# Altium footprint library VOLT_CONV_PCB_LIB.PcbLib: 12 footprints
Each footprint in its own frame and in the unit in brackets; x right, y up, seen from the top. Pads: shape width x height; smd on the part's side, far side on the other; paste and mask are expansions set on the pad; w line width, h text height; cw(c..) or ccw(c..) is an arc to the next point about the centre after c.
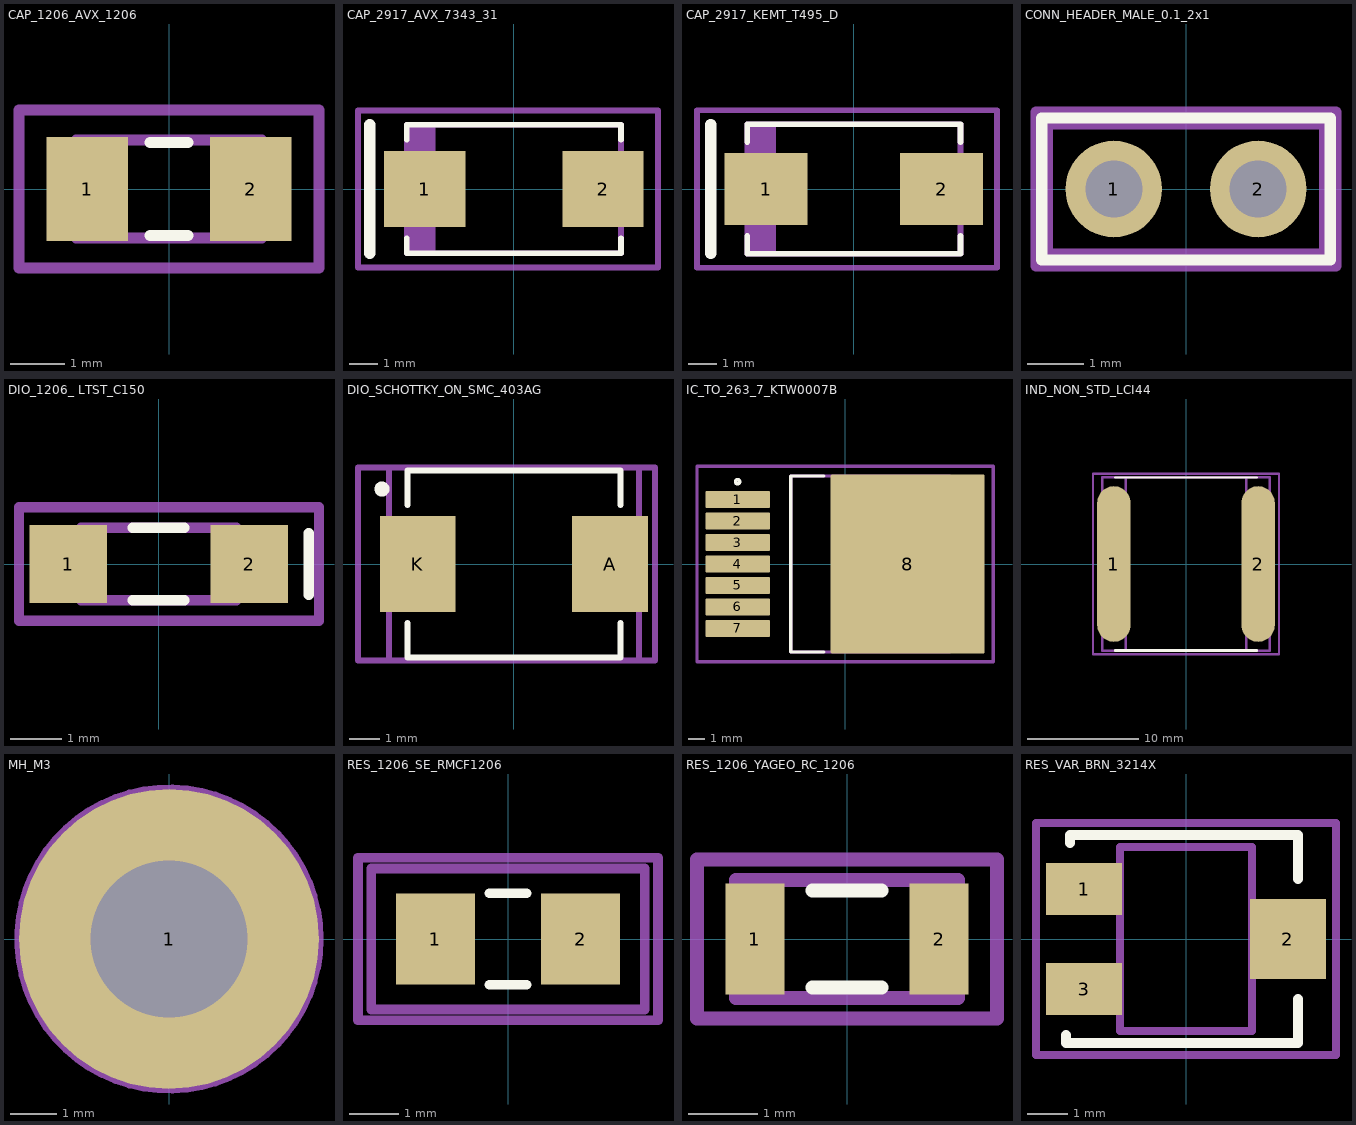
[diagram p0: the footprints below, top view; thin cyan lines are the x and y axes]

## CAP_1206_AVX_1206 [mm] "SMD, 2-Leads, Body 3.4x1.8mm, IPC Low Density"
height 1.52
pads (2):
  rect 1.5x1.9 smd: 1(-1.5,0) 2(1.5,0)
Top Overlay:
  lines w0.2: -0.35,-0.85 0.35,-0.85 ; -0.35,0.85 0.35,0.85
Mechanical 5:
  lines w0.2: -1.7,-0.9 1.7,-0.9 1.7,0.9 -1.7,0.9 -1.7,-0.9
  text ".Designator" at 0,0.187 h1
Mechanical 15:
  lines w0.2: -2.75,-1.45 2.75,-1.45 2.75,1.45 -2.75,1.45 -2.75,-1.45
3D body: height 1.52, standoff 0, extent 1.2,-0.9 1.7,0.9
3D body: height 1.52, standoff 0, extent -1.7,-0.9 -1.2,0.9
3D body: height 1.52, standoff 0, extent -1.2,-0.9 1.2,0.9

## CAP_2917_AVX_7343_31 [mm] "Molded Capacitor, 2-Leads, Body 7.5x4.5mm, IPC Low Density"
height 3.1
pads (2):
  rect 2.85x2.65 smd: 1(-3.125,0) 2(3.125,0)
Top Overlay:
  lines w0.2: -3.75,-1.725 -3.75,-2.25 3.75,-2.25 3.75,-1.725 ; -3.75,1.725 -3.75,2.25 3.75,2.25 3.75,1.725
  lines w0.4: -5.05,-2.25 -5.05,2.25
Mechanical 5:
  rectangle: -3.75,-2.25 -2.741,2.25
  lines w0.2: -3.75,-2.25 -3.75,2.25 3.75,2.25 3.75,-2.25 -3.75,-2.25
  text ".Designator" at 0,0.187 h1
Mechanical 15:
  lines w0.2: -5.461,-2.75 -5.461,2.75 5.05,2.75 5.05,-2.75 -5.461,-2.75
3D body "CAPMP7344X31M.step": height 3.1, standoff 0, extent -3.97,-2.25 3.97,2.25

## CAP_2917_KEMT_T495_D [mm] "Molded Capacitor, 2-Leads, Body 7.6x4.6mm, IPC Low Density"
height 3.1
pads (2):
  rect 2.95x2.55 smd: 1(-3.125,0) 2(3.125,0)
Top Overlay:
  lines w0.2: -3.8,-1.675 -3.8,-2.3 3.8,-2.3 3.8,-1.675 ; -3.8,1.675 -3.8,2.3 3.8,2.3 3.8,1.675
  lines w0.4: -5.1,-2.3 -5.1,2.3
Mechanical 5:
  rectangle: -3.8,-2.3 -2.778,2.3
  lines w0.2: -3.8,-2.3 -3.8,2.3 3.8,2.3 3.8,-2.3 -3.8,-2.3
  text ".Designator" at 0,0.286 h1.52
Mechanical 15:
  lines w0.2: -5.588,-2.8 5.1,-2.8 5.1,2.8 -5.588,2.8 -5.588,-2.8
3D body "CAPMP7343X31M.step": height 3.1, standoff 0, extent -4.02,-2.3 4.02,2.3

## CONN_HEADER_MALE_0.1_2x1 [mm] "Connector"
height 9.5
pads (2):
  round 1.7 hole 1: 1(-1.27,0) 2(1.27,0)
Top Overlay:
  lines w0.2: -2.54,-1.25 -2.54,1.25 2.54,1.25 2.54,-1.25 -2.54,-1.25
Mechanical 5:
  lines w0.2: -2.44,-1.15 -2.44,1.15 2.44,1.15 2.44,-1.15 -2.44,-1.15
  text ".Designator" at 0,0.187 h1
Mechanical 15:
  lines w0.2: -2.64,-1.35 -2.64,1.35 2.64,1.35 2.64,-1.35 -2.64,-1.35
3D body "826629-2.stp": height 9.51, standoff -3.19, extent -2.54,-1.25 2.54,1.25

## DIO_1206_ LTST_C150 [mm] "Diode"
height 1.1
pads (2):
  rect 1.5x1.5 smd: 1(-1.75,0) 2(1.75,0)
Top Overlay:
  lines w0.2: -0.5,-0.7 0.5,-0.7 ; -0.5,0.7 0.5,0.7 ; 2.9,-0.6 2.9,0.6
Mechanical 5:
  lines w0.2: -1.5,-0.7 -1.5,0.7 1.5,0.7 1.5,-0.7 -1.5,-0.7
  text ".Designator" at 0,0.187 h1
Mechanical 15:
  lines w0.2: -2.7,-1.1 -2.7,1.1 3.1,1.1 3.1,-1.1 -2.7,-1.1
3D body "LTST-C150GKT.stp": height 1.2, standoff 0, extent -1.651,-0.851 1.651,0.851

## DIO_SCHOTTKY_ON_SMC_403AG [mm] "Schottky Diode"
height 2.65
pads (2):
  rect 2.52x3.2 smd paste+0 mask+0: A(3.205,0) K(-3.205,0)
Top Overlay:
  circle w0.25: c-4.4,2.5 r0.125
  lines w0.2: -3.555,-1.975 -3.555,-3.11 3.555,-3.11 3.555,-1.975 ; -3.555,1.975 -3.555,3.11 3.555,3.11 3.555,1.975
Mechanical 5:
  lines w0.2: -4.165,-3.21 -4.165,3.21 4.165,3.21 4.165,-3.21 -4.165,-3.21
  text ".Designator" at 0,0.187 h1
Mechanical 15:
  lines w0.2: -5.2,-3.21 -5.2,3.21 4.7,3.21 4.7,-3.21 -5.2,-3.21
3D body "Diode_Vishay_SS32-E3-57T_eec.STEP": height 0.25, standoff 0, extent -4.165,-3.21 4.165,3.21

## IC_TO_263_7_KTW0007B [mm] "DPAK, 7-Leads, Body 9.4x10.4mm, Pitch 1.27mm, IPC Low Density"
height 4.65
pads (8):
  rrect10% 3.8x1 smd: 1(-6.35,3.81) 2(-6.35,2.54) 3(-6.35,1.27) 4(-6.35,0) 5(-6.35,-1.27) 6(-6.35,-2.54) 7(-6.35,-3.81)
  rrect1% 9.1x10.55 smd: 8(3.7,0)
Top Overlay:
  circle w0.2: c-6.35,4.86 r0.125
  lines w0.2: -1.25,-5.2 -3.2,-5.2 -3.2,5.2 -1.25,5.2
Mechanical 5:
  lines w0.2: -3.2,-5.2 -3.2,5.2 6.2,5.2 6.2,-5.2 -3.2,-5.2
  text ".Designator" at 0,0 h1
Mechanical 15:
  lines w0.2: -8.75,-5.775 8.75,-5.775 8.75,5.775 -8.75,5.775 -8.75,-5.775
3D body "LM2677S_5.0NOPB.stp": height 4.58, standoff -0.14, extent -6.985,-5.08 7.315,5.08

## IND_NON_STD_LCI44 [mm] "Inductor"
height 9.91
pads (2):
  rrect100% 3x13.97 smd: 1(-6.475,0) 2(6.475,0)
Top Overlay:
  lines w0.2: -6.35,7.75 6.35,7.75
  lines w0.254: -6.35,-7.75 6.35,-7.75
Mechanical 5:
  lines w0.2: -5.4,-7.7 -5.4,7.7 ; 5.4,-7.7 5.4,7.7 ; -7.52,-7.775 7.52,-7.775 7.52,7.775 -7.52,7.775 -7.52,-7.775
  text ".Designator" at 0,0.187 h1
Mechanical 15:
  lines w0.2: -8.35,-8.1 8.35,-8.1 8.35,8.1 -8.35,8.1 -8.35,-8.1
3D body: height 9.91, standoff 0, extent -7.505,-7.795 7.505,7.795

## MH_M3 [mm] "Mounting Holes, M3"
pads (1):
  round 6.5 hole 3.4: 1(0,0)
Mechanical 15:
  circle w0.2: c0,0 r3.25

## RES_1206_SE_RMCF1206 [mm] "Resistor"
height 0.55
pads (2):
  rect 1.604x1.858 smd paste+0 mask+0: 1(-1.476,0) 2(1.476,0)
Top Overlay:
  lines w0.2: -0.374,-0.929 0.374,-0.929 ; -0.374,0.929 0.374,0.929
Mechanical 5:
  lines w0.2: -2.777,-1.429 -2.777,1.429 2.777,1.429 2.777,-1.429 -2.777,-1.429
  text ".Designator" at 0,0.187 h1
Mechanical 15:
  lines w0.2: -3.048,-1.651 3.048,-1.651 3.048,1.651 -3.048,1.651 -3.048,-1.651
3D body "Res_Stackpole_Electronics_RMCF1206JT1K00_eec.STEP": height 0.25, standoff 0, extent -2.777,-1.429 2.777,1.429

## RES_1206_YAGEO_RC_1206 [mm] "Chip Resistor, 2-Leads, Body 3.10x1.60mm, IPC High Density"
height 0.65
pads (2):
  rect 0.85x1.6 smd: 1(-1.325,0) 2(1.325,0)
Top Overlay:
  lines w0.2: -0.5,-0.7 0.5,-0.7 ; -0.5,0.7 0.5,0.7
Mechanical 5:
  lines w0.2: -1.6,-0.85 1.6,-0.85 1.6,0.85 -1.6,0.85 -1.6,-0.85
  text ".Designator" at 0,0.187 h1
Mechanical 15:
  lines w0.2: -2.159,-1.143 2.159,-1.143 2.159,1.143 -2.159,1.143 -2.159,-1.143
3D body: height 0.65, standoff 0, extent 1.2,-0.85 1.6,0.85
3D body: height 0.65, standoff 0, extent -1.6,-0.85 -1.2,0.85
3D body: height 0.65, standoff 0, extent -1.2,-0.85 1.2,0.85

## RES_VAR_BRN_3214X [mm] "Variable Resistor"
height 5.1
pads (3):
  rect 1.9x1.3 smd: 1(-2.55,1.25) 3(-2.55,-1.25)
  rect 1.9x2 smd: 2(2.55,0)
Top Overlay:
  lines w0.254: -3,-2.4 -3,-2.6 2.8,-2.6 2.8,-1.5 ; -2.9,2.4 -2.9,2.6 2.8,2.6 2.8,1.5
Mechanical 5:
  lines w0.2: -1.65,-2.3 1.65,-2.3 1.65,2.3 -1.65,2.3 -1.65,-2.3
  text ".Designator" at 0,0.187 h1
Mechanical 15:
  lines w0.2: -3.75,-2.9 3.75,-2.9 3.75,2.9 -3.75,2.9 -3.75,-2.9
3D body "3214X_1_103E.stp": height 5.09, standoff -0.19, extent -2.881,-2.418 2.803,2.408